# Altium footprint library MOD_EZR_LOW_COST_V01.PcbLib: 1 footprints
Each footprint in its own frame and in the unit in brackets; x right, y up, seen from the top. Pads: shape width x height; smd on the part's side, far side on the other; paste and mask are expansions set on the pad; w line width, h text height; cw(c..) or ccw(c..) is an arc to the next point about the centre after c.
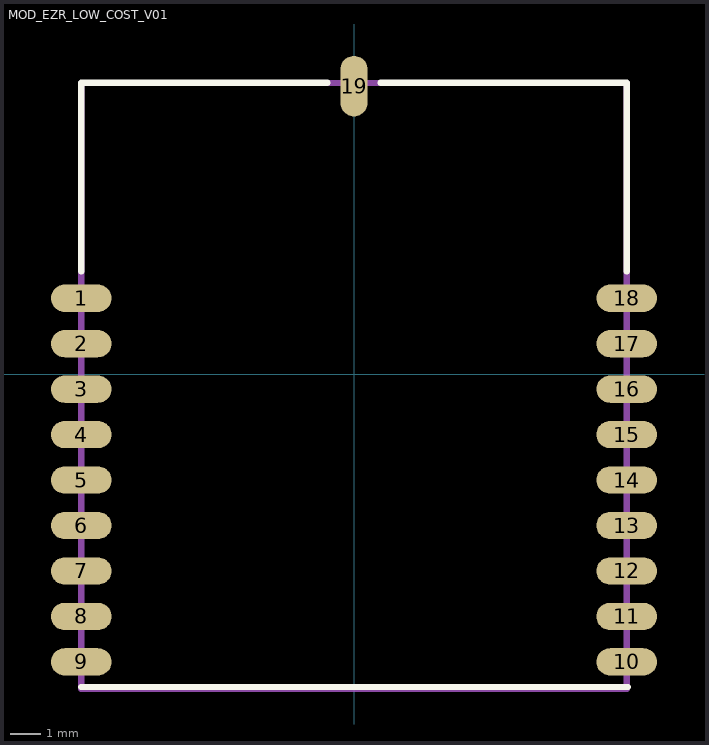
[diagram p0: the footprint, top view; thin cyan lines are the x and y axes]

## MOD_EZR_LOW_COST_V01 [mm]
pads (19):
  oval 2x0.9 smd: 1(-9,2.5) 2(-9,1) 3(-9,-0.5) 4(-9,-2) 5(-9,-3.5) 6(-9,-5) 7(-9,-6.5) 8(-9,-8) 9(-9,-9.5) 10(9,-9.5) 11(9,-8) 12(9,-6.5) 13(9,-5) 14(9,-3.5) 15(9,-2) 16(9,-0.5) 17(9,1) 18(9,2.5)
  oval 0.9x2 smd: 19(0,9.5)
Top Overlay:
  lines w0.2: -9,-10.327 9.034,-10.327 ; -9,3.389 -9,9.612 -0.872,9.612 ; 0.872,9.612 9,9.612 9,3.389
Mechanical 1:
  lines w0.2: -9,-10.4 9,-10.4 9,9.6 -9,9.6 -9,-10.4
Mechanical 17:
  text "'.Designator'" at -6.096,-0.127 h1.52
3D body "Low_cost_module_PCB.step": height 2.96, standoff 0, extent -9,-10.4 9,9.6